# EAGLE library part AS1115-BSST (library AS1115-BSST)
AS1115 LED Driver IC 64LED matrix driver with 16keys Source: Datasheet <https://datasheet.datasheetarchive.com/originals/distributors/Datasheets-SFU1/DSASFU10002655.pdf>
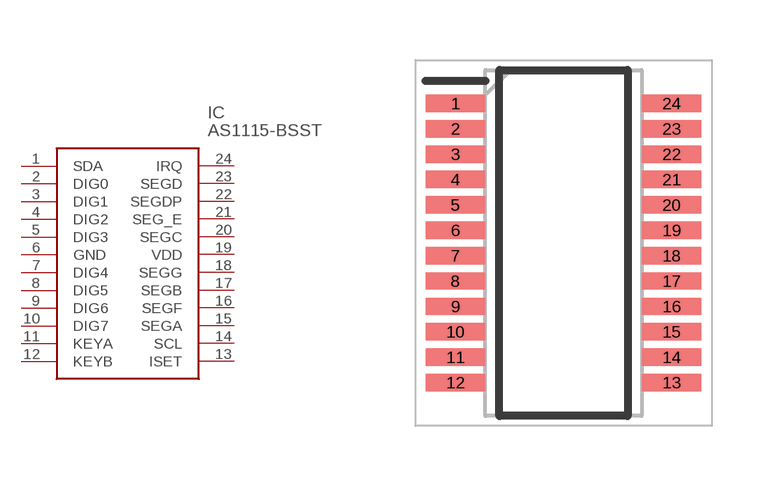
[diagram p0: symbol with the pads of SOP64P600X175-24N; footprint SOP64P600X175-24N]

Designator prefix IC

## AS1115-BSST (Description: AS1115 LED Driver IC 64LED matrix driver with 16keys; Height: 1.75mm; Manufacturer_Name: ams OSRAM; Manufacturer_Part_Number: AS1115-BSST)  [SOP64P600X175-24N]
1  SDA
2  DIG0
3  DIG1
4  DIG2
5  DIG3
6  GND
7  DIG4
8  DIG5
9  DIG6
10  DIG7
11  KEYA
12  KEYB
13  ISET
14  SCL
15  SEGA
16  SEGF
17  SEGB
18  SEGG
19  VDD
20  SEGC
21  SEG_E
22  SEGDP
23  SEGD
24  IRQ

## Footprint SOP64P600X175-24N (pad centres in mm)
QSOP-24
smd 1.495 x 0.435: 1 -2.702,3.492; 2 -2.702,2.858; 3 -2.702,2.222; 4 -2.702,1.588; 5 -2.702,0.952; 6 -2.702,0.318; 7 -2.702,-0.318; 8 -2.702,-0.952; 9 -2.702,-1.588; 10 -2.702,-2.222; 11 -2.702,-2.858; 12 -2.702,-3.492; 13 2.702,-3.492; 14 2.702,-2.858; 15 2.702,-2.222; 16 2.702,-1.588; 17 2.702,-0.952; 18 2.702,-0.318; 19 2.702,0.318; 20 2.702,0.952; 21 2.702,1.588; 22 2.702,2.222; 23 2.702,2.858; 24 2.702,3.492